# Altium footprint library AD6684BCPZ-500.PcbLib: 3 footprints
Each footprint in its own frame and in the unit in brackets; x right, y up, seen from the top. Pads: shape width x height; smd on the part's side, far side on the other; paste and mask are expansions set on the pad; w line width, h text height; cw(c..) or ccw(c..) is an arc to the next point about the centre after c.
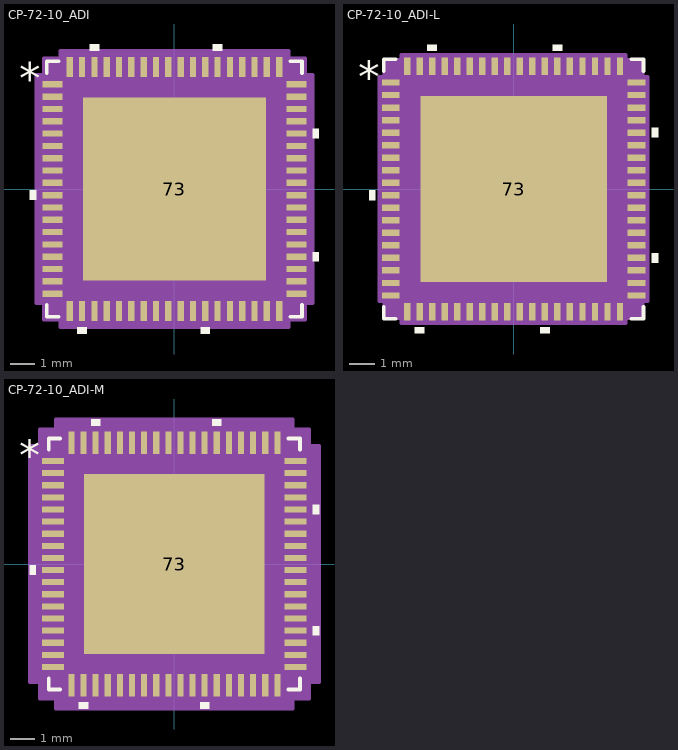
[diagram p0: the footprints below, top view; thin cyan lines are the x and y axes]

## CP-72-10_ADI [mil]
pads (73):
  rect 32x10 smd paste+0 mask+0: 1(-195,167.32) 2(-195,147.64) 3(-195,127.95) 4(-195,108.27) 5(-195,88.58) 6(-195,68.9) 7(-195,49.21) 8(-195,29.53) 9(-195,9.84) 10(-195,-9.84) 11(-195,-29.53) 12(-195,-49.21) 13(-195,-68.9) 14(-195,-88.58) 15(-195,-108.27) 16(-195,-127.95) 17(-195,-147.64) 18(-195,-167.32) 37(195,-167.32) 38(195,-147.64) 39(195,-127.95) 40(195,-108.27) 41(195,-88.58) 42(195,-68.9) 43(195,-49.21) 44(195,-29.53) 45(195,-9.84) 46(195,9.84) 47(195,29.53) 48(195,49.21) 49(195,68.9) 50(195,88.58) 51(195,108.27) 52(195,127.95) 53(195,147.64) 54(195,167.32)
  rect 10x32 smd paste+0 mask+0: 19(-167.32,-195) 20(-147.64,-195) 21(-127.95,-195) 22(-108.27,-195) 23(-88.58,-195) 24(-68.9,-195) 25(-49.21,-195) 26(-29.53,-195) 27(-9.84,-195) 28(9.84,-195) 29(29.53,-195) 30(49.21,-195) 31(68.9,-195) 32(88.58,-195) 33(108.27,-195) 34(127.95,-195) 35(147.64,-195) 36(167.32,-195) 55(167.32,195) 56(147.64,195) 57(127.95,195) 58(108.27,195) 59(88.58,195) 60(68.9,195) 61(49.21,195) 62(29.53,195) 63(9.84,195) 64(-9.84,195) 65(-29.53,195) 66(-49.21,195) 67(-68.9,195) 68(-88.58,195) 69(-108.27,195) 70(-127.95,195) 71(-147.64,195) 72(-167.32,195)
  rect 293x293 smd paste-146 mask+0: 73(0,0)
Top Overlay:
  region: -221,-2.34 -231,-2.34 -231,-17.34 -221,-17.34
  region: -140.14,-221 -155.14,-221 -155.14,-231 -140.14,-231
  region: 56.71,-221 41.71,-221 41.71,-231 56.71,-231
  region: 221,-100.77 231,-100.77 231,-115.77 221,-115.77
  region: 221,96.08 231,96.08 231,81.08 221,81.08
  region: 76.4,221 61.4,221 61.4,231 76.4,231
  region: -120.45,221 -135.45,221 -135.45,231 -120.45,231
  lines w6: -204,-185.42 -204,-204 -185.42,-204 ; -204,185.42 -204,204 -185.42,204 ; 185.42,-204 204,-204 204,-185.42 ; 185.42,204 204,204 204,185.42
  text "*" at -248.5,152.17 h50
Top Paste:
  region: -91.84,142.56 -142.56,142.56 -142.56,91.84 -91.84,91.84
  region: -91.84,83.96 -142.56,83.96 -142.56,33.24 -91.84,33.24
  region: -91.84,25.36 -142.56,25.36 -142.56,-25.36 -91.84,-25.36
  region: -91.84,-33.24 -142.56,-33.24 -142.56,-83.96 -91.84,-83.96
  region: -91.84,-91.84 -142.56,-91.84 -142.56,-142.56 -91.84,-142.56
  region: -33.24,142.56 -83.96,142.56 -83.96,91.84 -33.24,91.84
  region: -33.24,83.96 -83.96,83.96 -83.96,33.24 -33.24,33.24
  region: -33.24,25.36 -83.96,25.36 -83.96,-25.36 -33.24,-25.36
  region: -33.24,-33.24 -83.96,-33.24 -83.96,-83.96 -33.24,-83.96
  region: -33.24,-91.84 -83.96,-91.84 -83.96,-142.56 -33.24,-142.56
  region: 25.36,142.56 -25.36,142.56 -25.36,91.84 25.36,91.84
  region: 25.36,83.96 -25.36,83.96 -25.36,33.24 25.36,33.24
  region: 25.36,25.36 -25.36,25.36 -25.36,-25.36 25.36,-25.36
  region: 25.36,-33.24 -25.36,-33.24 -25.36,-83.96 25.36,-83.96
  region: 25.36,-91.84 -25.36,-91.84 -25.36,-142.56 25.36,-142.56
  region: 83.96,142.56 33.24,142.56 33.24,91.84 83.96,91.84
  region: 83.96,83.96 33.24,83.96 33.24,33.24 83.96,33.24
  region: 83.96,25.36 33.24,25.36 33.24,-25.36 83.96,-25.36
  region: 83.96,-33.24 33.24,-33.24 33.24,-83.96 83.96,-83.96
  region: 83.96,-91.84 33.24,-91.84 33.24,-142.56 83.96,-142.56
  region: 142.56,142.56 91.84,142.56 91.84,91.84 142.56,91.84
  region: 142.56,83.96 91.84,83.96 91.84,33.24 142.56,33.24
  region: 142.56,25.36 91.84,25.36 91.84,-25.36 142.56,-25.36
  region: 142.56,-33.24 91.84,-33.24 91.84,-83.96 142.56,-83.96
  region: 142.56,-91.84 91.84,-91.84 91.84,-142.56 142.56,-142.56
Mechanical 13:
  drawing of 297 lines, arcs and shapes, not listed
  text "*" at -191.5,152.17 h50
Mechanical 15:
  region: -182.32,-209 -209,-209 -209,-182.32 -221,-182.32 -221,182.32 -209,182.32 -209,209 -182.32,209 -182.32,221 182.32,221 182.32,209 209,209 209,182.32 221,182.32 221,-182.32 209,-182.32 209,-209 182.32,-209 182.32,-221 -182.32,-221
  lines w6: -221,-182.32 -209,-182.32 -209,-209 -182.32,-209 -182.32,-221 182.32,-221 182.32,-209 209,-209 209,-182.32 221,-182.32 221,182.32 209,182.32 209,209 182.32,209 182.32,221 -182.32,221 -182.32,209 -209,209 -209,182.32 -221,182.32 -221,-182.32
3D body "CP-72-10_ADI.step": height 39.09, standoff 0, extent -199.02,-199.02 199.02,199.02

## CP-72-10_ADI-L [mil]
pads (73):
  rect 28x10 smd paste+0 mask+0: 1(-193,167.32) 2(-193,147.64) 3(-193,127.95) 4(-193,108.27) 5(-193,88.58) 6(-193,68.9) 7(-193,49.21) 8(-193,29.53) 9(-193,9.84) 10(-193,-9.84) 11(-193,-29.53) 12(-193,-49.21) 13(-193,-68.9) 14(-193,-88.58) 15(-193,-108.27) 16(-193,-127.95) 17(-193,-147.64) 18(-193,-167.32) 37(193,-167.32) 38(193,-147.64) 39(193,-127.95) 40(193,-108.27) 41(193,-88.58) 42(193,-68.9) 43(193,-49.21) 44(193,-29.53) 45(193,-9.84) 46(193,9.84) 47(193,29.53) 48(193,49.21) 49(193,68.9) 50(193,88.58) 51(193,108.27) 52(193,127.95) 53(193,147.64) 54(193,167.32)
  rect 10x28 smd paste+0 mask+0: 19(-167.32,-193) 20(-147.64,-193) 21(-127.95,-193) 22(-108.27,-193) 23(-88.58,-193) 24(-68.9,-193) 25(-49.21,-193) 26(-29.53,-193) 27(-9.84,-193) 28(9.84,-193) 29(29.53,-193) 30(49.21,-193) 31(68.9,-193) 32(88.58,-193) 33(108.27,-193) 34(127.95,-193) 35(147.64,-193) 36(167.32,-193) 55(167.32,193) 56(147.64,193) 57(127.95,193) 58(108.27,193) 59(88.58,193) 60(68.9,193) 61(49.21,193) 62(29.53,193) 63(9.84,193) 64(-9.84,193) 65(-29.53,193) 66(-49.21,193) 67(-68.9,193) 68(-88.58,193) 69(-108.27,193) 70(-127.95,193) 71(-147.64,193) 72(-167.32,193)
  rect 293x293 smd paste-146 mask+0: 73(0,0)
Top Overlay:
  region: -217,-2.34 -227,-2.34 -227,-17.34 -217,-17.34
  region: -140.14,-217 -155.14,-217 -155.14,-227 -140.14,-227
  region: 56.71,-217 41.71,-217 41.71,-227 56.71,-227
  region: 217,-100.77 227,-100.77 227,-115.77 217,-115.77
  region: 217,96.08 227,96.08 227,81.08 217,81.08
  region: 76.4,217 61.4,217 61.4,227 76.4,227
  region: -120.45,217 -135.45,217 -135.45,227 -120.45,227
  lines w6: -204,-185.42 -204,-204 -185.42,-204 ; -204,185.42 -204,204 -185.42,204 ; 185.42,-204 204,-204 204,-185.42 ; 185.42,204 204,204 204,185.42
  text "*" at -244.5,152.17 h50
Top Paste:
  region: -91.84,142.56 -142.56,142.56 -142.56,91.84 -91.84,91.84
  region: -91.84,83.96 -142.56,83.96 -142.56,33.24 -91.84,33.24
  region: -91.84,25.36 -142.56,25.36 -142.56,-25.36 -91.84,-25.36
  region: -91.84,-33.24 -142.56,-33.24 -142.56,-83.96 -91.84,-83.96
  region: -91.84,-91.84 -142.56,-91.84 -142.56,-142.56 -91.84,-142.56
  region: -33.24,142.56 -83.96,142.56 -83.96,91.84 -33.24,91.84
  region: -33.24,83.96 -83.96,83.96 -83.96,33.24 -33.24,33.24
  region: -33.24,25.36 -83.96,25.36 -83.96,-25.36 -33.24,-25.36
  region: -33.24,-33.24 -83.96,-33.24 -83.96,-83.96 -33.24,-83.96
  region: -33.24,-91.84 -83.96,-91.84 -83.96,-142.56 -33.24,-142.56
  region: 25.36,142.56 -25.36,142.56 -25.36,91.84 25.36,91.84
  region: 25.36,83.96 -25.36,83.96 -25.36,33.24 25.36,33.24
  region: 25.36,25.36 -25.36,25.36 -25.36,-25.36 25.36,-25.36
  region: 25.36,-33.24 -25.36,-33.24 -25.36,-83.96 25.36,-83.96
  region: 25.36,-91.84 -25.36,-91.84 -25.36,-142.56 25.36,-142.56
  region: 83.96,142.56 33.24,142.56 33.24,91.84 83.96,91.84
  region: 83.96,83.96 33.24,83.96 33.24,33.24 83.96,33.24
  region: 83.96,25.36 33.24,25.36 33.24,-25.36 83.96,-25.36
  region: 83.96,-33.24 33.24,-33.24 33.24,-83.96 83.96,-83.96
  region: 83.96,-91.84 33.24,-91.84 33.24,-142.56 83.96,-142.56
  region: 142.56,142.56 91.84,142.56 91.84,91.84 142.56,91.84
  region: 142.56,83.96 91.84,83.96 91.84,33.24 142.56,33.24
  region: 142.56,25.36 91.84,25.36 91.84,-25.36 142.56,-25.36
  region: 142.56,-33.24 91.84,-33.24 91.84,-83.96 142.56,-83.96
  region: 142.56,-91.84 91.84,-91.84 91.84,-142.56 142.56,-142.56
Mechanical 13:
  drawing of 297 lines, arcs and shapes, not listed
  text "*" at -191.5,152.17 h50
Mechanical 15:
  region: -176.32,-203 -203,-203 -203,-176.32 -211,-176.32 -211,176.32 -203,176.32 -203,203 -176.32,203 -176.32,211 176.32,211 176.32,203 203,203 203,176.32 211,176.32 211,-176.32 203,-176.32 203,-203 176.32,-203 176.32,-211 -176.32,-211
  lines w6: -211,-176.32 -203,-176.32 -203,-203 -176.32,-203 -176.32,-211 176.32,-211 176.32,-203 203,-203 203,-176.32 211,-176.32 211,176.32 203,176.32 203,203 176.32,203 176.32,211 -176.32,211 -176.32,203 -203,203 -203,176.32 -211,176.32 -211,-176.32
3D body "CP-72-10_ADI.step": height 39.09, standoff 0, extent -199.02,-199.02 199.02,199.02

## CP-72-10_ADI-M [mil]
pads (73):
  rect 36x10 smd paste+0 mask+0: 1(-197,167.32) 2(-197,147.64) 3(-197,127.95) 4(-197,108.27) 5(-197,88.58) 6(-197,68.9) 7(-197,49.21) 8(-197,29.53) 9(-197,9.84) 10(-197,-9.84) 11(-197,-29.53) 12(-197,-49.21) 13(-197,-68.9) 14(-197,-88.58) 15(-197,-108.27) 16(-197,-127.95) 17(-197,-147.64) 18(-197,-167.32) 37(197,-167.32) 38(197,-147.64) 39(197,-127.95) 40(197,-108.27) 41(197,-88.58) 42(197,-68.9) 43(197,-49.21) 44(197,-29.53) 45(197,-9.84) 46(197,9.84) 47(197,29.53) 48(197,49.21) 49(197,68.9) 50(197,88.58) 51(197,108.27) 52(197,127.95) 53(197,147.64) 54(197,167.32)
  rect 10x36 smd paste+0 mask+0: 19(-167.32,-197) 20(-147.64,-197) 21(-127.95,-197) 22(-108.27,-197) 23(-88.58,-197) 24(-68.9,-197) 25(-49.21,-197) 26(-29.53,-197) 27(-9.84,-197) 28(9.84,-197) 29(29.53,-197) 30(49.21,-197) 31(68.9,-197) 32(88.58,-197) 33(108.27,-197) 34(127.95,-197) 35(147.64,-197) 36(167.32,-197) 55(167.32,197) 56(147.64,197) 57(127.95,197) 58(108.27,197) 59(88.58,197) 60(68.9,197) 61(49.21,197) 62(29.53,197) 63(9.84,197) 64(-9.84,197) 65(-29.53,197) 66(-49.21,197) 67(-68.9,197) 68(-88.58,197) 69(-108.27,197) 70(-127.95,197) 71(-147.64,197) 72(-167.32,197)
  rect 293x293 smd paste-146 mask+0: 73(0,0)
Top Overlay:
  region: -225,-2.34 -235,-2.34 -235,-17.34 -225,-17.34
  region: -140.14,-225 -155.14,-225 -155.14,-235 -140.14,-235
  region: 56.71,-225 41.71,-225 41.71,-235 56.71,-235
  region: 225,-100.77 235,-100.77 235,-115.77 225,-115.77
  region: 225,96.08 235,96.08 235,81.08 225,81.08
  region: 76.4,225 61.4,225 61.4,235 76.4,235
  region: -120.45,225 -135.45,225 -135.45,235 -120.45,235
  lines w6: -204,-185.42 -204,-204 -185.42,-204 ; -204,185.42 -204,204 -185.42,204 ; 185.42,-204 204,-204 204,-185.42 ; 185.42,204 204,204 204,185.42
  text "*" at -252.5,152.17 h50
Top Paste:
  region: -91.84,142.56 -142.56,142.56 -142.56,91.84 -91.84,91.84
  region: -91.84,83.96 -142.56,83.96 -142.56,33.24 -91.84,33.24
  region: -91.84,25.36 -142.56,25.36 -142.56,-25.36 -91.84,-25.36
  region: -91.84,-33.24 -142.56,-33.24 -142.56,-83.96 -91.84,-83.96
  region: -91.84,-91.84 -142.56,-91.84 -142.56,-142.56 -91.84,-142.56
  region: -33.24,142.56 -83.96,142.56 -83.96,91.84 -33.24,91.84
  region: -33.24,83.96 -83.96,83.96 -83.96,33.24 -33.24,33.24
  region: -33.24,25.36 -83.96,25.36 -83.96,-25.36 -33.24,-25.36
  region: -33.24,-33.24 -83.96,-33.24 -83.96,-83.96 -33.24,-83.96
  region: -33.24,-91.84 -83.96,-91.84 -83.96,-142.56 -33.24,-142.56
  region: 25.36,142.56 -25.36,142.56 -25.36,91.84 25.36,91.84
  region: 25.36,83.96 -25.36,83.96 -25.36,33.24 25.36,33.24
  region: 25.36,25.36 -25.36,25.36 -25.36,-25.36 25.36,-25.36
  region: 25.36,-33.24 -25.36,-33.24 -25.36,-83.96 25.36,-83.96
  region: 25.36,-91.84 -25.36,-91.84 -25.36,-142.56 25.36,-142.56
  region: 83.96,142.56 33.24,142.56 33.24,91.84 83.96,91.84
  region: 83.96,83.96 33.24,83.96 33.24,33.24 83.96,33.24
  region: 83.96,25.36 33.24,25.36 33.24,-25.36 83.96,-25.36
  region: 83.96,-33.24 33.24,-33.24 33.24,-83.96 83.96,-83.96
  region: 83.96,-91.84 33.24,-91.84 33.24,-142.56 83.96,-142.56
  region: 142.56,142.56 91.84,142.56 91.84,91.84 142.56,91.84
  region: 142.56,83.96 91.84,83.96 91.84,33.24 142.56,33.24
  region: 142.56,25.36 91.84,25.36 91.84,-25.36 142.56,-25.36
  region: 142.56,-33.24 91.84,-33.24 91.84,-83.96 142.56,-83.96
  region: 142.56,-91.84 91.84,-91.84 91.84,-142.56 142.56,-142.56
Mechanical 13:
  drawing of 297 lines, arcs and shapes, not listed
  text "*" at -191.5,152.17 h50
Mechanical 15:
  region: -192.32,-219 -219,-219 -219,-192.32 -235,-192.32 -235,192.32 -219,192.32 -219,219 -192.32,219 -192.32,235 192.32,235 192.32,219 219,219 219,192.32 235,192.32 235,-192.32 219,-192.32 219,-219 192.32,-219 192.32,-235 -192.32,-235
  lines w6: -235,-192.32 -219,-192.32 -219,-219 -192.32,-219 -192.32,-235 192.32,-235 192.32,-219 219,-219 219,-192.32 235,-192.32 235,192.32 219,192.32 219,219 192.32,219 192.32,235 -192.32,235 -192.32,219 -219,219 -219,192.32 -235,192.32 -235,-192.32
3D body "CP-72-10_ADI.step": height 39.09, standoff 0, extent -199.02,-199.02 199.02,199.02